# Altium footprint library 532614010.PcbLib: 3 footprints
Each footprint in its own frame and in the unit in brackets; x right, y up, seen from the top. Pads: shape width x height; smd on the part's side, far side on the other; paste and mask are expansions set on the pad; w line width, h text height; cw(c..) or ccw(c..) is an arc to the next point about the centre after c.
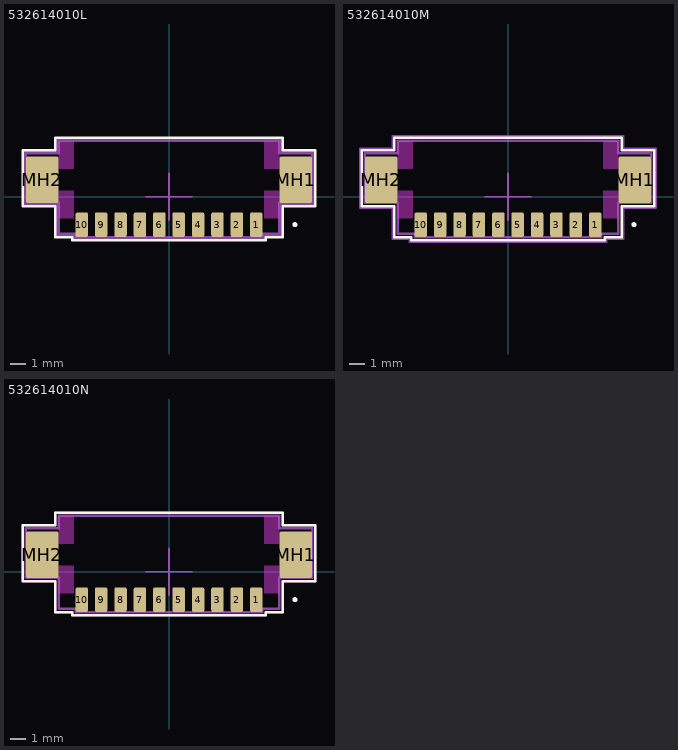
[diagram p0: the footprints below, top view; thin cyan lines are the x and y axes]

## 532614010L [mm] "Molex PicoBlade 10-Pin Right-Angle Connector with Gold Coating"
height 3.4
pads (12):
  rrect31% 0.8x1.6 smd: 1(5.625,-1.8) 2(4.375,-1.8) 3(3.125,-1.8) 4(1.875,-1.8) 5(0.625,-1.8) 6(-0.625,-1.8) 7(-1.875,-1.8) 8(-3.125,-1.8) 9(-4.375,-1.8) 10(-5.625,-1.8)
  rrect12% 2.1x3 smd: MH1(8.175,1.1) MH2(-8.175,1.1)
Top Layer keep-out:
  rectangle: -7.125,3.6 -6.125,1.8
  rectangle: 7.125,3.6 6.125,1.8
  rectangle: -7.125,-1.4 -6.125,0.4
  rectangle: 7.125,-1.4 6.125,0.4
Top Overlay:
  circle w0.16: c8.125,-1.8 r0.08
  lines w0.16: -9.425,-0.6 -7.325,-0.6 -7.325,-2.6 -6.225,-2.6 -6.225,-2.8 6.225,-2.8 6.225,-2.6 7.325,-2.6 7.325,-0.6 9.425,-0.6 9.425,3 7.325,3 7.325,3.8 -7.325,3.8 -7.325,3 -9.425,3 -9.425,-0.6
Top Component Center:
  lines w0.1: -1.5,0 1.5,0 ; 0,-1.5 0,1.5
Top Courtyard:
  lines w0.16: -9.325,-0.5 -7.225,-0.5 -7.225,-2.5 -6.125,-2.5 -6.125,-2.7 6.125,-2.7 6.125,-2.5 7.225,-2.5 7.225,-0.5 9.325,-0.5 9.325,2.9 7.225,2.9 7.225,3.7 -7.225,3.7 -7.225,2.9 -9.325,2.9 -9.325,-0.5
Top Assembly:
  lines w0.16: -9.225,-0.4 -7.125,-0.4 -7.125,-2.4 -6.025,-2.4 -6.025,-2.6 6.025,-2.6 6.025,-2.4 7.125,-2.4 7.125,-0.4 9.225,-0.4 9.225,2.8 7.125,2.8 7.125,3.6 -7.125,3.6 -7.125,2.8 -9.225,2.8 -9.225,-0.4
3D body "532614010L.STEP": height 3.4, standoff 0, extent -8.825,-2 8.825,3.2

## 532614010M [mm] "Molex PicoBlade 10-Pin Right-Angle Connector with Gold Coating"
height 3.4
pads (12):
  rrect31% 0.8x1.6 smd: 1(5.625,-1.8) 2(4.375,-1.8) 3(3.125,-1.8) 4(1.875,-1.8) 5(0.625,-1.8) 6(-0.625,-1.8) 7(-1.875,-1.8) 8(-3.125,-1.8) 9(-4.375,-1.8) 10(-5.625,-1.8)
  rrect12% 2.1x3 smd: MH1(8.175,1.1) MH2(-8.175,1.1)
Top Layer keep-out:
  rectangle: -7.125,3.6 -6.125,1.8
  rectangle: 7.125,3.6 6.125,1.8
  rectangle: -7.125,-1.4 -6.125,0.4
  rectangle: 7.125,-1.4 6.125,0.4
Top Overlay:
  circle w0.16: c8.125,-1.8 r0.08
  lines w0.16: -9.425,-0.6 -7.325,-0.6 -7.325,-2.6 -6.225,-2.6 -6.225,-2.8 6.225,-2.8 6.225,-2.6 7.325,-2.6 7.325,-0.6 9.425,-0.6 9.425,3 7.325,3 7.325,3.8 -7.325,3.8 -7.325,3 -9.425,3 -9.425,-0.6
Top Component Center:
  lines w0.1: -1.5,0 1.5,0 ; 0,-1.5 0,1.5
Top Courtyard:
  lines w0.16: -9.525,-0.7 -7.425,-0.7 -7.425,-2.7 -6.325,-2.7 -6.325,-2.9 6.325,-2.9 6.325,-2.7 7.425,-2.7 7.425,-0.7 9.525,-0.7 9.525,3.1 7.425,3.1 7.425,3.9 -7.425,3.9 -7.425,3.1 -9.525,3.1 -9.525,-0.7
Top Assembly:
  lines w0.16: -9.225,-0.4 -7.125,-0.4 -7.125,-2.4 -6.025,-2.4 -6.025,-2.6 6.025,-2.6 6.025,-2.4 7.125,-2.4 7.125,-0.4 9.225,-0.4 9.225,2.8 7.125,2.8 7.125,3.6 -7.125,3.6 -7.125,2.8 -9.225,2.8 -9.225,-0.4
3D body "532614010M.STEP": height 3.4, standoff 0, extent -8.825,-2 8.825,3.2

## 532614010N [mm] "Molex PicoBlade 10-Pin Right-Angle Connector with Gold Coating"
height 3.4
pads (12):
  rrect31% 0.8x1.6 smd: 1(5.625,-1.8) 2(4.375,-1.8) 3(3.125,-1.8) 4(1.875,-1.8) 5(0.625,-1.8) 6(-0.625,-1.8) 7(-1.875,-1.8) 8(-3.125,-1.8) 9(-4.375,-1.8) 10(-5.625,-1.8)
  rrect12% 2.1x3 smd: MH1(8.175,1.1) MH2(-8.175,1.1)
Top Layer keep-out:
  rectangle: -7.125,3.6 -6.125,1.8
  rectangle: 7.125,3.6 6.125,1.8
  rectangle: -7.125,-1.4 -6.125,0.4
  rectangle: 7.125,-1.4 6.125,0.4
Top Overlay:
  circle w0.16: c8.125,-1.8 r0.08
  lines w0.16: -9.425,-0.6 -7.325,-0.6 -7.325,-2.6 -6.225,-2.6 -6.225,-2.8 6.225,-2.8 6.225,-2.6 7.325,-2.6 7.325,-0.6 9.425,-0.6 9.425,3 7.325,3 7.325,3.8 -7.325,3.8 -7.325,3 -9.425,3 -9.425,-0.6
Top Component Center:
  lines w0.1: -1.5,0 1.5,0 ; 0,-1.5 0,1.5
Top Courtyard:
  lines w0.16: -9.425,-0.6 -7.325,-0.6 -7.325,-2.6 -6.225,-2.6 -6.225,-2.8 6.225,-2.8 6.225,-2.6 7.325,-2.6 7.325,-0.6 9.425,-0.6 9.425,3 7.325,3 7.325,3.8 -7.325,3.8 -7.325,3 -9.425,3 -9.425,-0.6
Top Assembly:
  lines w0.16: -9.225,-0.4 -7.125,-0.4 -7.125,-2.4 -6.025,-2.4 -6.025,-2.6 6.025,-2.6 6.025,-2.4 7.125,-2.4 7.125,-0.4 9.225,-0.4 9.225,2.8 7.125,2.8 7.125,3.6 -7.125,3.6 -7.125,2.8 -9.225,2.8 -9.225,-0.4
3D body "532614010N.STEP": height 3.4, standoff 0, extent -8.825,-2 8.825,3.2